# Altium schematic symbol library Connectors.SchLib: 13 symbols
Pins are listed as number, name and electrical type; pins without a type are passive.

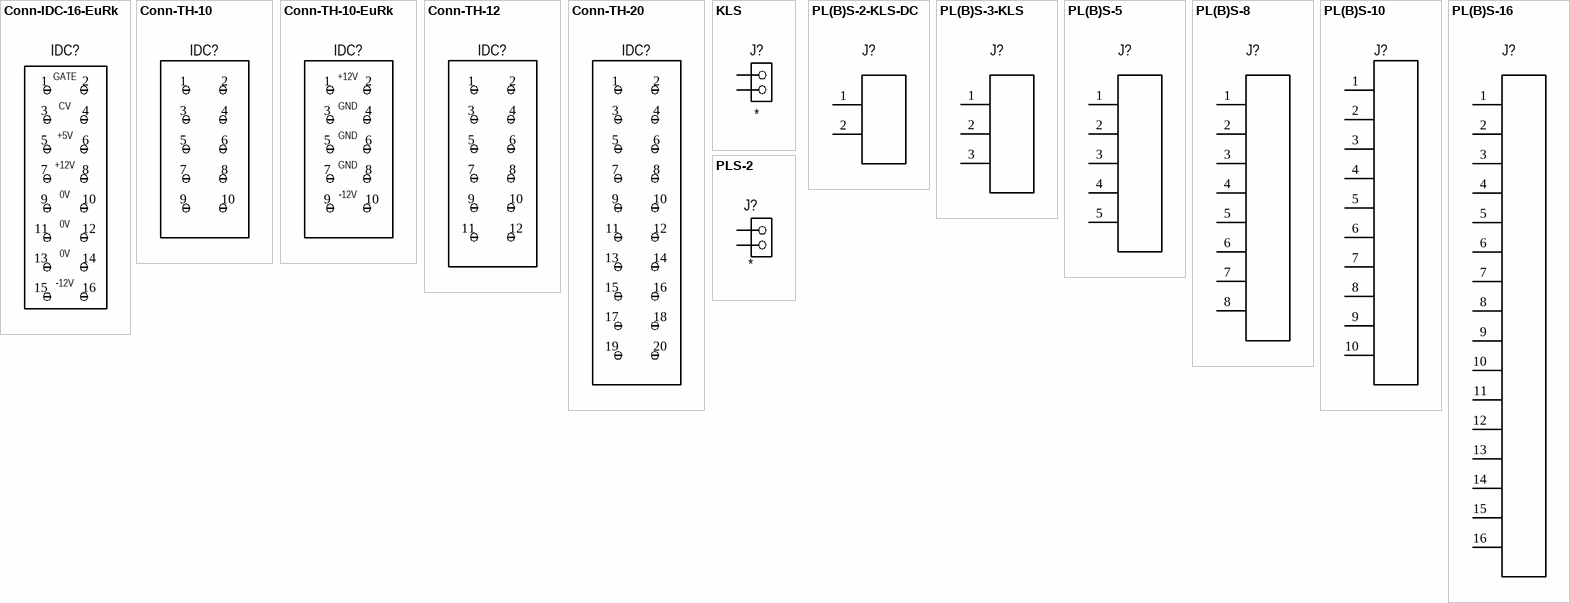
[diagram p0: symbols Conn-IDC-16-EuRk to PLS-2]

## Conn-IDC-16-EuRk
designator IDC?
Model: *; Manufacture: *; HelpURL: *; Case: *; Value: *
footprint IDC-16MS
pins: 1 Gate, 2 Gate, 3 CV, 4 CV, 5 +5V, 6 +5V, 7 +12V, 8 +12V, 9 0V, 10 0V, 11 0V, 12 0V, 13 0V, 14 0V, 15 +12V, 16 +12V
text: GATE; -12V

## Conn-TH-10
designator IDC?
Model: *; Manufacture: *; HelpURL: *; Case: *; Value: *
footprint PLD-10
footprint PLD-10 - BOTTOM
footprint PBD-10R
footprint PBD-10R - BOTTOM
footprint PLD2-10
pins: 1 Gate, 2 Gate, 3 CV, 4 CV, 5 +5V, 6 +5V, 7 +12V, 8 +12V, 9 0V, 10 0V

## Conn-TH-10-EuRk
designator IDC?
Model: *; Manufacture: *; HelpURL: *; Case: *; Value: *
footprint PLD-10
footprint PLD-10 - BOTTOM
pins: 1 Gate, 2 Gate, 3 CV, 4 CV, 5 +5V, 6 +5V, 7 +12V, 8 +12V, 9 0V, 10 0V
text: GND; -12V

## Conn-TH-12
designator IDC?
Model: *; Manufacture: *; HelpURL: *; Case: *; Value: *
footprint PBD-12R
footprint PLD2-12
pins: 1 Gate, 2 Gate, 3 CV, 4 CV, 5 +5V, 6 +5V, 7 +12V, 8 +12V, 9 0V, 10 0V, 11 Gate, 12 Gate

## Conn-TH-20
designator IDC?
Model: *; Manufacture: *; HelpURL: *; Case: *; Value: *
footprint PBD-20R - BOTTOM
footprint PBD-20R
footprint PBD-20 - BOTTOM
footprint PBD-20
pins: 1 Gate, 2 Gate, 3 CV, 4 CV, 5 +5V, 6 +5V, 7 +12V, 8 +12V, 9 0V, 10 0V, 11 Gate, 12 Gate, 13 CV, 14 CV, 15 +5V, 16 +5V, 17 +12V, 18 +12V, 19 0V, 20 0V

## KLS
designator J?
Value: *
footprint KLS
footprint KLS - 8
pins: 1, 2

## PL(B)S-2-KLS-DC
designator J?  (value not drawn)
footprint PLS-2
footprint PLS-2 - bottom
footprint PBS-2
footprint KLS2-340-3_81-2P
footprint JACK-DC
footprint NULL-2
pins: 1 A, 2 B

## PL(B)S-3-KLS
designator J?  (value not drawn)
footprint PBS-3
footprint PLS-3
footprint PLS-3-BOTTOM
footprint KLS2-340-3_81-3P
footprint NULL-3
pins: 1 A, 2 B, 3 C

## PL(B)S-5
designator J?  (value not drawn)
footprint PLS-5
footprint PLS-5 - BOTTOM
footprint PLS-5-ANGLE
footprint PLB-5
pins: 1 A, 2 B, 3 C, 4 B, 5 C

## PL(B)S-8
designator J?  (value not drawn)
footprint PLS-8
footprint PLS-8-BOTTOM
footprint PBS-8
pins: 1 A, 2 B, 3 C, 4 D, 5 E, 6 F, 7 G, 8 DP

## PL(B)S-10
designator J?  (value not drawn)
footprint PLS-10
footprint PLS-10-BOTTOM
footprint PBS-10
pins: 1 A, 2 B, 3 C, 4 D, 5 E, 6 F, 7 G, 8 DP, 9 G, 10 DP

## PL(B)S-16
designator J?  (value not drawn)
footprint PBS-16
footprint PLS-16
footprint PLS-16-BOTTOM
pins: 1 A, 2 B, 3 C, 4 D, 5 E, 6 F, 7 G, 8 DP, 9 G, 10 DP, 11 E, 12 F, 13 G, 14 DP, 15 G, 16 DP

## PLS-2
designator J?
Value: *
footprint PLS-2
footprint NULL-2
pins: 1, 2